# EAGLE library part LF347SO14 (library Texas LF347)
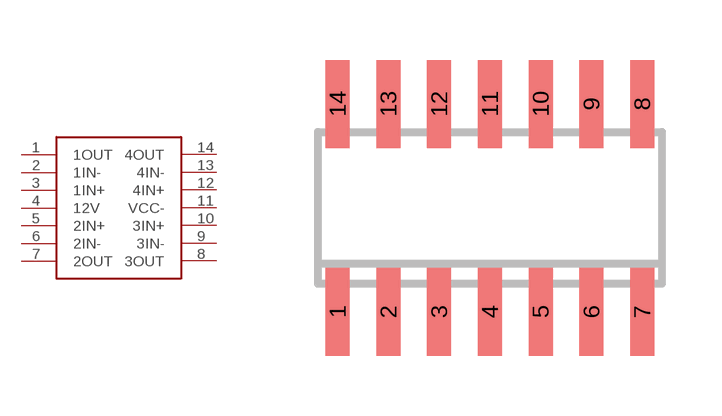
[diagram p1: symbol with the pads of SO14-2; footprint SO14-2]

Designator prefix -

## LF347SO14  [SO14-2]
1  1OUT
2  1IN-
3  1IN+
4  12V
5  2IN+
6  2IN-
7  2OUT
8  3OUT
9  3IN-
10  3IN+
11  VCC-
12  4IN+
13  4IN-
14  4OUT

## Footprint SO14-2 (pad centres in mm)
smd 0.6 x 2.2: 1 -3.81,-2.6; 2 -2.54,-2.6; 3 -1.27,-2.6; 4 0,-2.6; 5 1.27,-2.6; 6 2.54,-2.6; 7 3.81,-2.6; 8 3.81,2.6; 9 2.54,2.6; 10 1.27,2.6; 11 0,2.6; 12 -1.27,2.6; 13 -2.54,2.6; 14 -3.81,2.6